# EAGLE library part DS3231 (library airball)
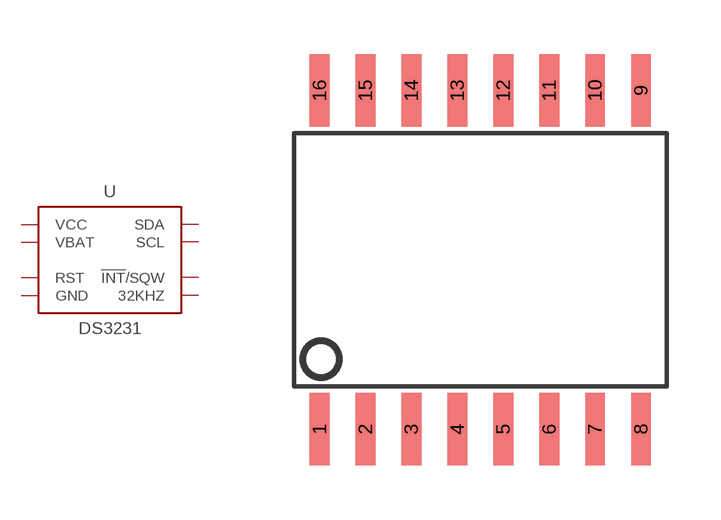
[diagram p15: symbol with the pads of SOIC16W; footprint SOIC16W]

Designator prefix U

## DS3231  [SOIC16W]
1  32KHZ  out
2  VCC  pwr
3  !INT!/SQW  out
4  RST
5  GND  pwr
6  GND  pwr
7  GND  pwr
8  GND  pwr
9  GND  pwr
10  GND  pwr
11  GND  pwr
12  GND  pwr
13  GND  pwr
14  VBAT  pwr
15  SDA
16  SCL  in

## Footprint SOIC16W (pad centres in mm)
smd 0.55 x 2: 1 -4.445,-4.685; 2 -3.175,-4.685; 3 -1.905,-4.685; 4 -0.635,-4.685; 5 0.635,-4.685; 6 1.905,-4.685; 7 3.175,-4.685; 8 4.445,-4.685; 9 4.445,4.685; 10 3.175,4.685; 11 1.905,4.685; 12 0.635,4.685; 13 -0.635,4.685; 14 -1.905,4.685; 15 -3.175,4.685; 16 -4.445,4.685